# EAGLE library part TI-TPS7B6750-Q1 (library usb-pd)
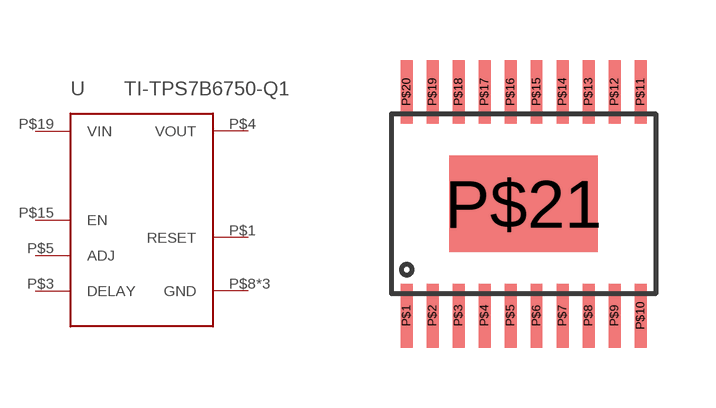
[diagram p1: symbol with the pads of HTSSOP-20; footprint HTSSOP-20]

Designator prefix -

## TI-TPS7B6750-Q1  [HTSSOP-20]
P$1  RESET
P$3  DELAY
P$4  VOUT
P$5  ADJ
P$8  GND
P$13  GND
P$15  EN
P$19  VIN
P$21  GND

## Footprint HTSSOP-20 (pad centres in mm)
smd 0.3 x 1.6: P$1 -2.925,-2.8; P$2 -2.275,-2.8; P$3 -1.625,-2.8; P$4 -0.975,-2.8; P$5 -0.325,-2.8; P$6 0.325,-2.8; P$7 0.975,-2.8; P$8 1.625,-2.8; P$9 2.275,-2.8; P$10 2.925,-2.8; P$11 2.925,2.8; P$12 2.275,2.8; P$13 1.625,2.8; P$14 0.975,2.8; P$15 0.325,2.8; P$16 -0.325,2.8; P$17 -0.975,2.8; P$18 -1.625,2.8; P$19 -2.275,2.8; P$20 -2.925,2.8
smd 3.7 x 2.4: P$21 0,0